# EAGLE library part CONN:LEDS (library lpatiny)
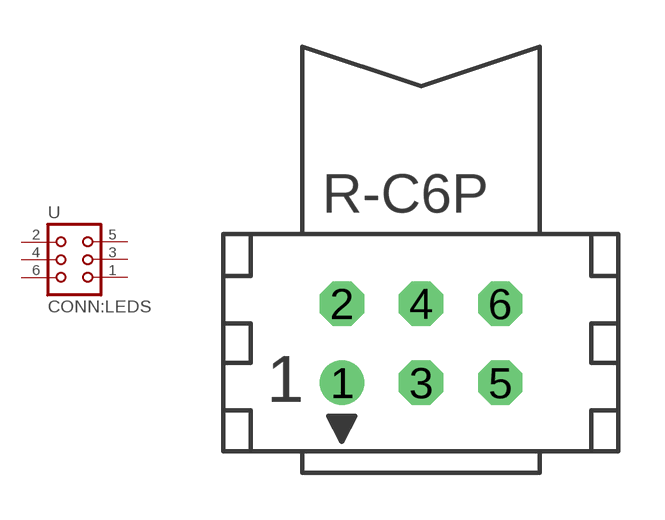
[diagram p24: symbol with the pads of IDC-2*3; footprint IDC-2*3]

Designator prefix -

## CONN:LEDS  [IDC-2*3]
1  GND  pas
2  RED  pas
3  UV  pas
4  GREEN  pas
5  WHITE  pas
6  BLUE  pas

## Footprint IDC-2*3 (pad centres in mm)
drill 0.914: 1 -2.54,-1.27
drill 0.914 octagon: 2 -2.54,1.27; 3 0,-1.27; 4 0,1.27; 5 2.54,-1.27; 6 2.54,1.27